# Altium footprint library SML-D12.PcbLib: 1 footprints
Each footprint in its own frame and in the unit in brackets; x right, y up, seen from the top. Pads: shape width x height; smd on the part's side, far side on the other; paste and mask are expansions set on the pad; w line width, h text height; cw(c..) or ccw(c..) is an arc to the next point about the centre after c.
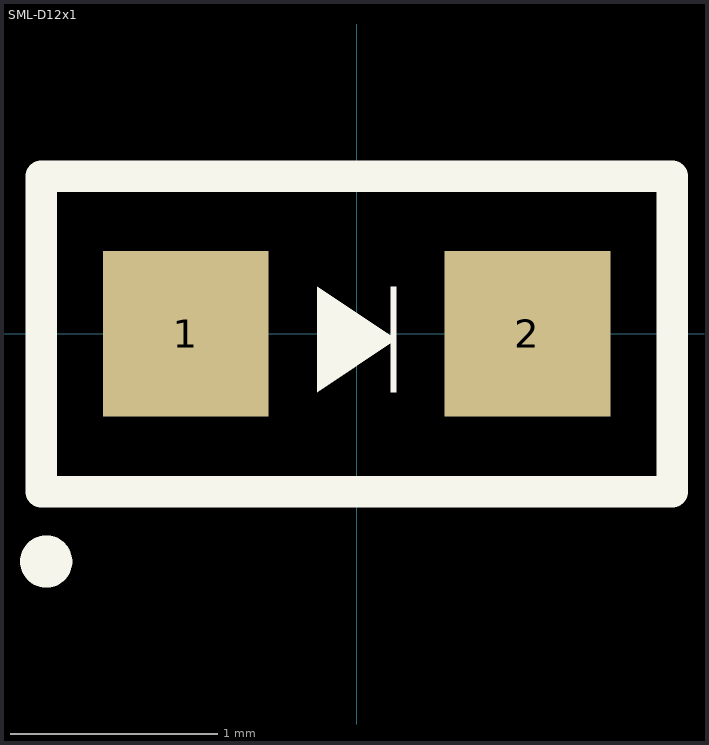
[diagram p0: the footprint, top view; thin cyan lines are the x and y axes]

## SML-D12x1 [mm] "Rohm Semiconductor 0603 SMD LED"
height 0.55
pads (2):
  rect 0.8x0.8 smd: 1(-0.825,0) 2(0.825,0)
Top Overlay:
  circle w0.152: c-1.5,-1.1 r0.05
  region: 0.163,0.227 0.163,-0.281 0.191,-0.281 0.191,0.227
  region: -0.191,0.227 -0.191,-0.281 0.191,-0.027
  lines w0.152: -1.524,-0.762 -1.524,0.762 1.524,0.762 1.524,-0.762 -1.524,-0.762
3D body "SML-D12.stp": height 0.55, standoff 0, extent -0.8,-0.4 0.8,0.4